# Altium footprint library PCB_Lib.PcbLib: 301 footprints (part 9 of 19)
Each footprint in its own frame and in the unit in brackets; x right, y up, seen from the top. Pads: shape width x height; smd on the part's side, far side on the other; paste and mask are expansions set on the pad; w line width, h text height; cw(c..) or ccw(c..) is an arc to the next point about the centre after c.
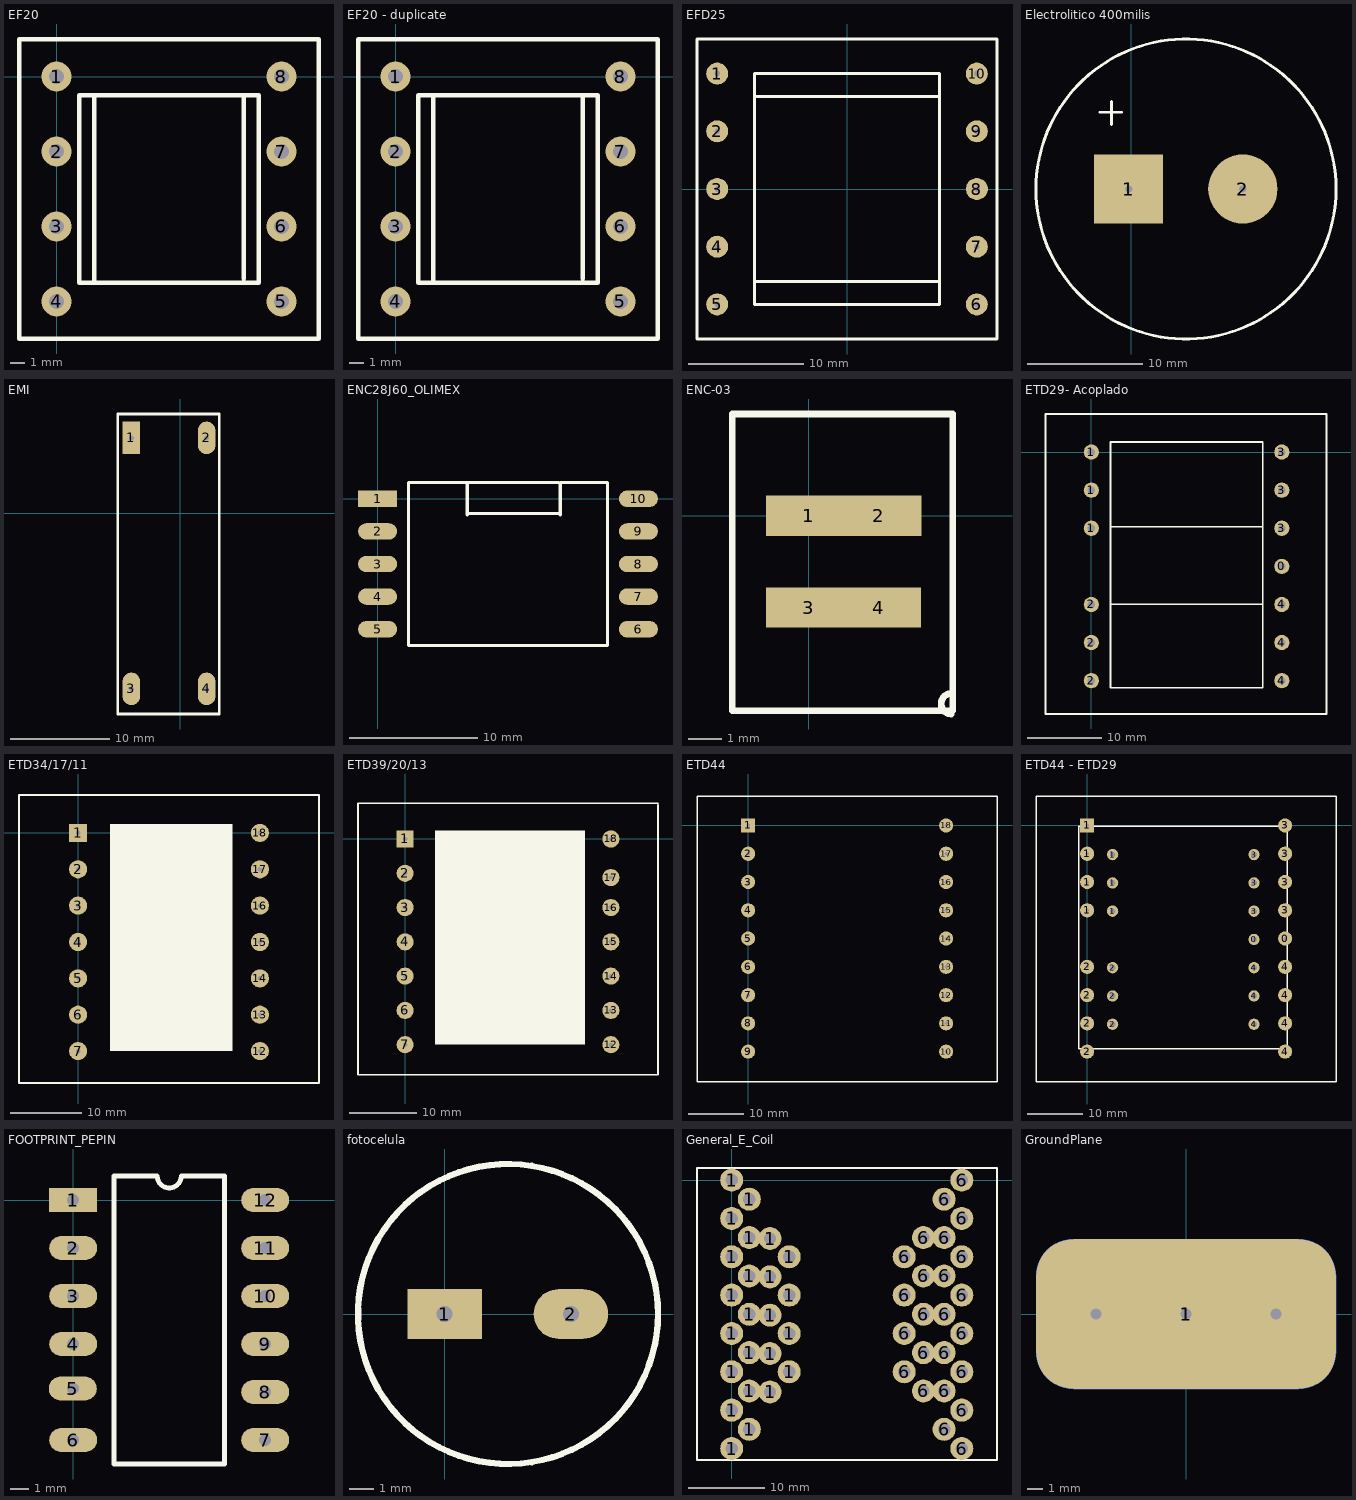
[diagram p8: the footprints below, top view; thin cyan lines are the x and y axes]

## EF20 [mil]
pads (8):
  round 80 hole 40: 1(0,0) 2(0,-200) 3(0,-400) 4(0,-600) 5(600,-600) 6(600,-400) 7(600,-200) 8(600,0)
Top Overlay:
  lines w12: 100,-550 100,-50 ; 500,-540 500,-50 ; -100,-700 -100,100 700,100 700,-700 -100,-700 ; 60,-550 60,-50 540,-50 540,-550 60,-550

## EF20 - duplicate [mil]
pads (8):
  round 80 hole 40: 1(0,0) 2(0,-200) 3(0,-400) 4(0,-600) 5(600,-600) 6(600,-400) 7(600,-200) 8(600,0)
Top Overlay:
  lines w12: 100,-550 100,-50 ; 500,-540 500,-50 ; -100,-700 -100,100 700,100 700,-700 -100,-700 ; 60,-550 60,-50 540,-50 540,-550 60,-550

## EFD25 [mm] "Footprin para el núcleo EFD25 con carrete normalizado"
pads (10):
  round 1.905 hole 0.508: 1(-11.25,10) 2(-11.25,5) 3(-11.25,0) 4(-11.25,-5) 5(-11.25,-10) 6(11.25,-10) 7(11.25,-5) 8(11.256,0) 9(11.25,5) 10(11.25,10)
Top Overlay:
  lines w0.254: -11.247,-10.022 -11.222,-9.997 ; -8,-8 8,-8 ; -8,8 8,8 ; -13,-13 -13,13 13,13 13,-13 -13,-13 ; -8,-10 -8,10 8,10 8,-10 -8,-10

## Electrolitico 400milis [mm] "100uF 400v"
height 100
pads (2):
  rect 6x6 hole 0.635: 1(-0.25,16.025)
  round 6 hole 0.635: 2(9.65,16.025)
Top Overlay:
  circle w0.254: c4.725,16.025 r13
  lines w0.254: -2.75,22.675 -0.85,22.675 ; -1.75,21.6 -1.75,23.625

## EMI [mil] "Filtro EMI"
pads (4):
  rect 70x130 hole 20: 1(-195,300)
  oval 70x130 hole 20: 2(105,300) 3(-195,-700) 4(105,-700)
Top Overlay:
  lines w10: 155,-800 -250,-800 -250,395 -85,395 155,395 155,-795

## ENC28J60_OLIMEX [mil]
pads (10):
  rect 120x50 hole 5: 1(0,0)
  oval 120x50 hole 5: 2(0,-100) 3(0,-200) 4(0,-300) 5(0,-400) 6(800,-400) 7(800,-300) 8(800,-200) 9(800,-100) 10(800,0)
Top Overlay:
  lines w10: 275,-50 275,50 ; 275,-45 555,-45 ; 555,50 275,50 ; 560,-50 560,50 705,50 705,-450 95,-450 95,50 275,50

## ENC-03 [mm]
pads (4):
  rect 2.553x1.2 smd: 1(0,0) 2(2.1,0) 3(0,-2.75)
  rect 2.54x1.2 smd: 4(2.1,-2.75)
Top Overlay:
  lines w0.2: 0.363,3.048 4.318,3.048 4.318,-5.842 -2.286,-5.842 -2.286,3.048 1.737,3.048 ; 4.275,-5.94 cw(c4.275,-5.632) 4.275,-5.325

## ETD29- Acoplado [mil]
pads (13):
  round 80 hole 40: 0(1000,-600) 1(0,-400) 1(0,-200) 1(0,0) 2(0,-1200) 2(0,-1000) 2(0,-800) 3(1000,-400) 3(1000,-200) 3(1000,0) 4(1000,-1200) 4(1000,-1000) 4(1000,-800)
Top Overlay:
  lines w10: 103,-392 897,-392 ; 105,-799 897,-799 ; -240,-1375 -240,200 1234,200 1234,-1375 -240,-1375 ; 100,-1237 100,52 900,52 900,-1237 100,-1237

## ETD34/17/11 [mil]
pads (14):
  rect 100x100 hole 25: 1(0,0)
  round 100 hole 25: 2(0,-200) 3(0,-400) 4(0,-600) 5(0,-800) 6(0,-1000) 7(0,-1200) 12(1000,-1200) 13(1000,-1000) 14(1000,-800) 15(1000,-600) 16(1000,-400) 17(1000,-200) 18(1000,0)
Top Overlay:
  rectangle: 175,-1200 850,50
  lines w10: -325,-1375 473.5,-1375 1325,-1375 1325,208 -325,208 -325,-1375

## ETD39/20/13 [mil]
pads (14):
  rect 100x100 hole 25: 1(0,0)
  round 100 hole 25: 2(0,-200) 3(0,-400) 4(0,-600) 5(0,-800) 6(0,-1000) 7(0,-1200) 12(1200,-1200) 13(1200,-1000) 14(1200,-800) 15(1200,-600) 16(1200,-400) 17(1200,-225) 18(1200,0)
Top Overlay:
  rectangle: 175,-1200 1050,50
  lines w10: 1475,200 1475,-1375 473.5,-1375 -275,-1375 -275,208 1475,208

## ETD44 [mil]
pads (18):
  rect 100x100 hole 25: 1(0,0)
  round 100 hole 25: 2(0,-200) 3(0,-400) 4(0,-600) 5(0,-800) 6(0,-1000) 7(0,-1200) 8(0,-1400) 9(0,-1600) 10(1400,-1600) 11(1400,-1400) 12(1400,-1200) 13(1400,-1000) 14(1400,-800) 15(1400,-600) 16(1400,-400) 17(1400,-200) 18(1400,0)
Top Overlay:
  lines w10: -362,-1814 1760,-1814 1760,208 -362,208 -362,-1814

## ETD44 - ETD29 [mil]
pads (30):
  round 80 hole 40: 0(1180,-806) 1(180,-606) 1(180,-406) 1(180,-206) 2(180,-1406) 2(180,-1206) 2(180,-1006) 3(1180,-606) 3(1180,-406) 3(1180,-206) 4(1180,-1406) 4(1180,-1206) 4(1180,-1006)
  round 100 hole 25: 0(1400,-800) 1(0,-600) 1(0,-400) 1(0,-200) 2(0,-1600) 2(0,-1400) 2(0,-1200) 2(0,-1000) 3(1400,-600) 3(1400,-400) 3(1400,-200) 3(1400,0) 4(1400,-1600) 4(1400,-1400) 4(1400,-1200) 4(1400,-1000)
  rect 100x100 hole 25: 1(0,0)
Top Overlay:
  lines w10: -362,-1814 1760,-1814 1760,208 -362,208 -362,-1814 ; -60,-1581 -60,-6 1414,-6 1414,-1581 -60,-1581

## FOOTPRINT_PEPIN [mil]
pads (12):
  rect 100x50 hole 25: 1(0,0)
  oval 100x50 hole 25: 2(0,-100) 3(0,-200) 4(0,-300) 5(-1,-393) 6(0,-500) 7(400,-500) 8(400,-400) 9(400,-300) 10(400,-200) 11(400,-100) 12(400,0)
Top Overlay:
  lines w10: 85,-550 315,-550 315,50 225,50 cw(c200,50) 175,50 85,50 85,-550

## fotocelula [mm]
pads (2):
  rect 3x2 hole 0.635: 1(0,0)
  oval 3x2 hole 0.635: 2(5.08,0)
Top Overlay:
  circle w0.254: c2.55,0 r6.034

## General_E_Coil [mm] "For unknown shape. Max 40mm"
pads (48):
  round 3 hole 1.6: 1(0,-35) 1(0,-30) 1(0,-25) 1(0,-20) 1(0,-15) 1(0,-10) 1(0,-5) 1(0,0) 1(2.3,-32.5) 1(2.3,-27.5) 1(2.3,-22.5) 1(2.3,-17.5) 1(2.3,-12.5) 1(2.3,-7.5) 1(2.3,-2.5) 1(5,-27.62) 1(5,-22.62) 1(5,-17.62) 1(5,-12.62) 1(5,-7.62) 1(7.5,-25) 1(7.5,-20) 1(7.5,-15) 1(7.5,-10) 6(22.5,-25) 6(22.5,-20) 6(22.5,-15) 6(22.5,-10) 6(25,-27.5) 6(25,-22.5) 6(25,-17.5) 6(25,-12.5) 6(25,-7.5) 6(27.7,-32.5) 6(27.7,-27.5) 6(27.7,-22.5) 6(27.7,-17.5) 6(27.7,-12.5) 6(27.7,-7.5) 6(27.7,-2.5) 6(30,-35) 6(30,-30) 6(30,-25) 6(30,-20) 6(30,-15) 6(30,-10) 6(30,-5) 6(30,0)
Top Overlay:
  lines w0.254: -4.521,-36.525 34.595,-36.525 34.595,1.6 -4.521,1.6 -4.521,-36.525

## GroundPlane [mm]
pads (2):
  rrect50% 20x10 smd: 1(0,0)
  rrect50% 20x10 smd far side: 1(0,0)
via -6,0 diameter 1.27 hole 0.711
via 6,0 diameter 1.27 hole 0.711
via 0,0 diameter 1.27 hole 0.711